# Altium footprint library MOD_RCM06_v1.0_26X56.pcblib: 1 footprints
Each footprint in its own frame and in the unit in brackets; x right, y up, seen from the top. Pads: shape width x height; smd on the part's side, far side on the other; paste and mask are expansions set on the pad; w line width, h text height; cw(c..) or ccw(c..) is an arc to the next point about the centre after c.
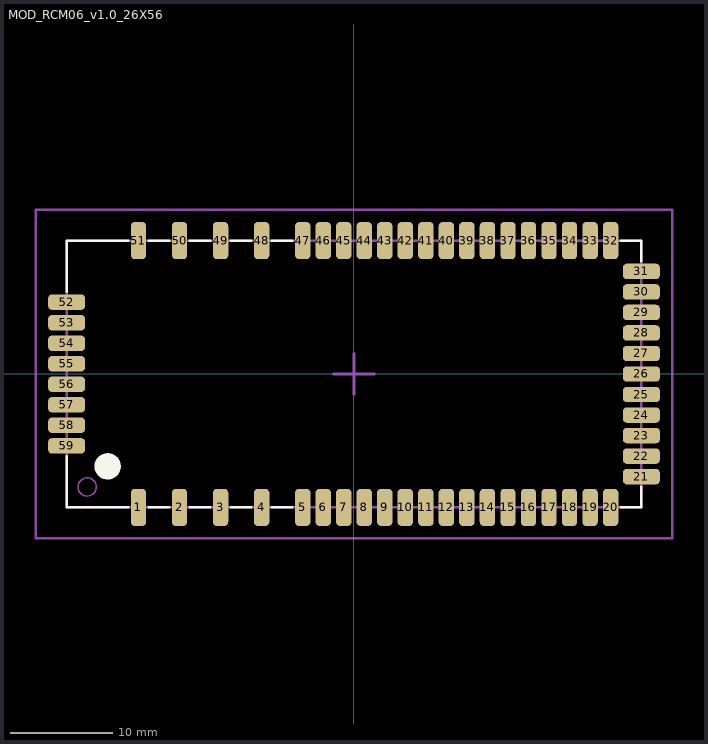
[diagram p0: the footprint, top view; thin cyan lines are the x and y axes]

## MOD_RCM06_v1.0_26X56 [mm]
pads (59):
  rrect50% 1.5x3.6 smd paste-100: 1(-21,-13) 2(-17,-13) 3(-13,-13) 4(-9,-13) 5(-5,-13) 6(-3,-13) 7(-1,-13) 8(1,-13) 9(3,-13) 10(5,-13) 11(7,-13) 12(9,-13) 13(11,-13) 14(13,-13) 15(15,-13) 16(17,-13) 17(19,-13) 18(21,-13) 19(23,-13) 20(25,-13) 32(25,13) 33(23,13) 34(21,13) 35(19,13) 36(17,13) 37(15,13) 38(13,13) 39(11,13) 40(9,13) 41(7,13) 42(5,13) 43(3,13) 44(1,13) 45(-1,13) 46(-3,13) 47(-5,13) 48(-9,13) 49(-13,13) 50(-17,13) 51(-21,13)
  rrect50% 3.6x1.5 smd paste-100: 21(28,-10) 22(28,-8) 23(28,-6) 24(28,-4) 25(28,-2) 26(28,0) 27(28,2) 28(28,4) 29(28,6) 30(28,8) 31(28,10) 52(-28,7) 53(-28,5) 54(-28,3) 55(-28,1) 56(-28,-1) 57(-28,-3) 58(-28,-5) 59(-28,-7)
Top Overlay:
  circle w1.27: c-24,-9 r0.648
  lines w0.254: -28,-8 -28,-13 -22,-13 ; -28,8 -28,13 -22,13 ; -20,-13 -18,-13 ; -20,13 -18,13 ; -16,-13 -14,-13 ; -16,13 -14,13 ; -12,-13 -10,-13 ; -12,13 -10,13 ; -8,-13 -6,-13 ; -8,13 -6,13 ; 26,-13 28,-13 28,-11 ; 26,13 28,13 28,11
Mechanical 13:
  circle w0.127: c-26,-11 r0.889
  lines w0.254: -28,-13 -28,13 28,13 28,-13 -28,-13
Mechanical 15:
  lines w0.254: -2,0 2,0 ; 0,-2 0,2 ; -31,-16 -31,16 31,16 31,-16 -31,-16
Mechanical 17:
  text "'.Designator'" at -20,0 h3.81
Mechanical 19:
  text "'.Comment'" at -20,-8 h3.81
3D body "module_rcm06.step": height 3.49, standoff 0.01, extent -29,-14 29,14